# EAGLE library part 686124183522 (library Eagle_FPC_CONNECTOR_AND_FFC_CAB (rev18c))
686118183522 WR-FPC 1.00mm SMT Horizontal Bottom Contact - Low Profile <http://katalog.we-online.de/media/images/v2/Family_WR-FPC_6861xx183522.jpg> Details see: http://katalog.we-online.de/en/em/FPC_1_00_SMT_ZIF_HORIZONTAL_BOTTOM_CONTACT_LOW_PROFILE_6861xx183522 Created by Yingchun,shan 2016 (C) Wurth Elektronik
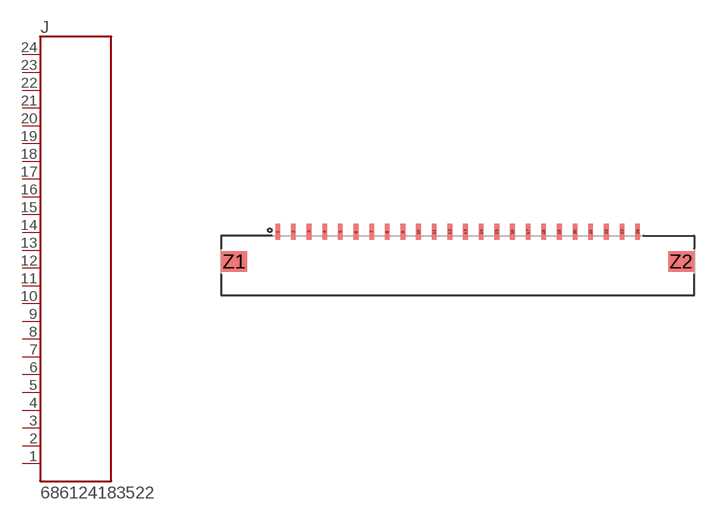
[diagram p164: symbol with the pads of 686124183522; footprint 686124183522]

Designator prefix J

## 686124183522  [686124183522]
1  24  pas
2  23  pas
3  22  pas
4  21  pas
5  20  pas
6  19  pas
7  18  pas
8  17  pas
9  16  pas
10  15  pas
11  14  pas
12  13  pas
13  12  pas
14  11  pas
15  10  pas
16  9  pas
17  8  pas
18  7  pas
19  6  pas
20  5  pas
21  4  pas
22  3  pas
23  2  pas
24  1  pas

## Footprint 686124183522 (pad centres in mm)
smd 0.3 x 1: 1 -11.5,1.9; 2 -10.5,1.9; 3 -9.5,1.9; 4 -8.5,1.9; 5 -7.5,1.9; 6 -6.5,1.9; 7 -5.5,1.9; 8 -4.5,1.9; 9 -3.5,1.9; 10 -2.5,1.9; 11 -1.5,1.9; 12 -0.5,1.9; 13 0.5,1.9; 14 1.5,1.9; 15 2.5,1.9; 16 3.5,1.9; 17 4.5,1.9; 18 5.5,1.9; 19 6.5,1.9; 20 7.5,1.9; 21 8.5,1.9; 22 9.5,1.9; 23 10.5,1.9; 24 11.5,1.9
smd 1.65 x 1.3: Z1 -14.275,0; Z2 14.275,0